# Altium footprint library DIP-JP NO 0607.PCBLIB: 61 footprints (part 1 of 4)
Each footprint in its own frame and in the unit in brackets; x right, y up, seen from the top. Pads: shape width x height; smd on the part's side, far side on the other; paste and mask are expansions set on the pad; w line width, h text height; cw(c..) or ccw(c..) is an arc to the next point about the centre after c.
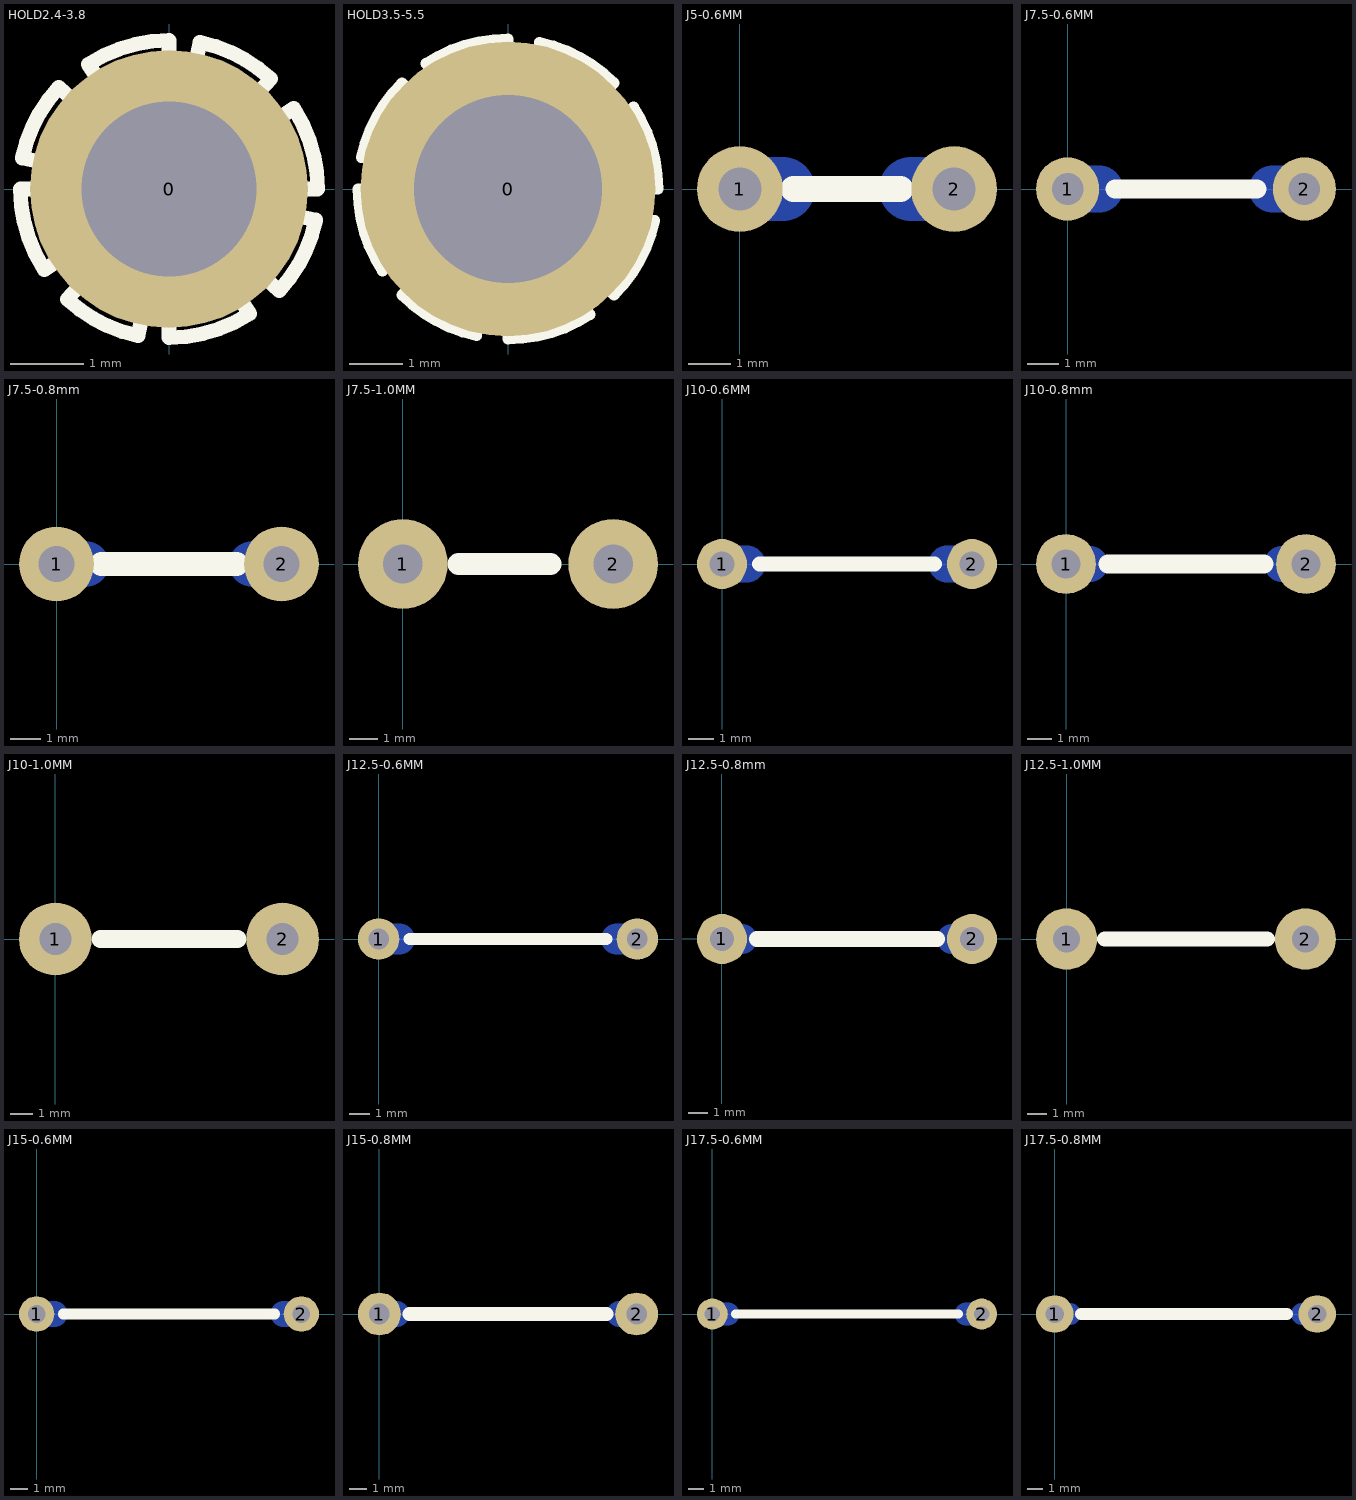
[diagram p0: the footprints below, top view; thin cyan lines are the x and y axes]

## HOLD2.4-3.8 [mm]
pads (1):
  round 3.8 hole 2.4: 0(0,0)
Top Overlay:
  circle w0.2: c0,0 r1.4
  lines w0.2: -2.008,0.423 cw(c0,0) -1.508,1.392 -1.025,0.95 ; -1.988,0.419 -1.37,0.288 ; -1.4,0 -2.032,0 ccw(c0,0) -1.706,-1.104 -1.175,-0.75 ; -0.95,-1.025 -1.392,-1.508 ccw(c0,0) -0.423,-2.008 ; -0.75,1.175 -1.104,1.706 cw(c0,0) 0,2.032 0,1.4 ; -0.419,-1.988 -0.288,-1.37 ; 0,-1.4 0,-2.032 ccw(c0,0) 1.104,-1.706 0.75,-1.175 ; 0.288,1.37 0.419,1.988 ; 0.423,2.008 cw(c0,0) 1.392,1.508 0.95,1.025 ; 1.025,-0.95 1.508,-1.392 ccw(c0,0) 2.008,-0.423 ; 1.175,0.75 1.706,1.104 cw(c0,0) 2.032,0 1.4,0 ; 1.37,-0.288 1.988,-0.419

## HOLD3.5-5.5 [mm]
pads (1):
  round 5.5 hole 3.5: 0(0,0)
Top Overlay:
  circle w0.2: c0,0 r2
  lines w0.2: -2.737,0.588 -2,0.4 ; -2.737,0.588 cw(c0,0) -1.98,1.98 -1.4,1.4 ; -2,0 -2.8,0 ccw(c0,0) -2.341,-1.536 -1.7,-1.1 ; -1.4,-1.4 -1.98,-1.98 ccw(c0,0) -0.588,-2.737 ; -1.1,1.7 -1.536,2.341 cw(c0,0) 0,2.8 0,2 ; -0.588,-2.737 -0.4,-2 ; 0,-2 0,-2.8 ccw(c0,0) 1.536,-2.341 1.1,-1.7 ; 0.4,2 0.588,2.737 ; 0.588,2.737 cw(c0,0) 1.98,1.98 1.4,1.4 ; 1.4,-1.4 1.98,-1.98 ccw(c0,0) 2.737,-0.588 ; 1.7,1.1 2.341,1.536 cw(c0,0) 2.8,0 2,0 ; 2,-0.4 2.737,-0.588

## J5-0.6MM [mm]
pads (2):
  round 2 hole 1: 1(0,0) 2(5,0)
Bottom Layer:
  lines w1.5: 0,0 1,0 ; 4,0 5,0
Top Overlay:
  lines w0.6: 1.25,0 3.75,0
Bottom Solder:
  lines w1: 0,0 1,0 ; 4,0 5,0

## J7.5-0.6MM [mm]
pads (2):
  round 2 hole 1: 1(0,0) 2(7.5,0)
Bottom Layer:
  lines w1.5: 0,0 1,0 ; 6.5,0 7.5,0
Top Overlay:
  lines w0.6: 1.5,0 6,0
Bottom Solder:
  lines w1: 0,0 1,0 ; 6.5,0 7.5,0

## J7.5-0.8mm [mm]
height 0.8
pads (2):
  round 2.5 hole 1.2: 1(0,0) 2(7.5,0)
Bottom Layer:
  lines w1.5: 0,0 1,0 ; 6.5,0 7.5,0
Top Overlay:
  lines w0.8: 1.5,0 6,0
Bottom Solder:
  lines w1: 0,0 1,0 ; 6.5,0 7.5,0

## J7.5-1.0MM [mm]
pads (2):
  round 3.2 hole 1.4: 1(0,0) 2(7.5,0)
Top Overlay:
  lines w0.8: 2,0 5.25,0

## J10-0.6MM [mm]
pads (2):
  round 2 hole 1: 1(0,0) 2(10,0)
Bottom Layer:
  lines w1.5: 0,0 1,0 ; 9,0 10,0
Top Overlay:
  lines w0.6: 1.5,0 8.5,0
Bottom Solder:
  lines w1: 0,0 1,0 ; 9,0 10,0

## J10-0.8mm [mm]
height 0.8
pads (2):
  round 2.5 hole 1.2: 1(0,0) 2(10,0)
Bottom Layer:
  lines w1.5: 0,0 1,0 ; 9,0 10,0
Top Overlay:
  lines w0.8: 1.75,0 8.25,0
Bottom Solder:
  lines w1: 0,0 1,0 ; 9,0 10,0

## J10-1.0MM [mm]
pads (2):
  round 3.2 hole 1.4: 1(0,0) 2(10,0)
Top Overlay:
  lines w0.8: 2,0 8,0

## J12.5-0.6MM [mm]
pads (2):
  round 2 hole 1: 1(0,0) 2(12.5,0)
Bottom Layer:
  lines w1.5: 0,0 1,0 ; 11.5,0 12.5,0
Top Overlay:
  lines w0.6: 1.5,0 11,0
Bottom Solder:
  lines w1: 0,0 1,0 ; 11.5,0 12.5,0

## J12.5-0.8mm [mm]
pads (2):
  round 2.5 hole 1.2: 1(0,0) 2(12.5,0)
Bottom Layer:
  lines w1.5: 0,0 1,0 ; 11.5,0 12.5,0
Top Overlay:
  lines w0.8: 1.75,0 10.75,0
Bottom Solder:
  lines w1: 0,0 1,0 ; 11.5,0 12.5,0

## J12.5-1.0MM [mm]
pads (2):
  round 3.2 hole 1.4: 1(0,0) 2(12.5,0)
Top Overlay:
  lines w0.8: 2,0 10.5,0

## J15-0.6MM [mm]
pads (2):
  round 2 hole 1: 1(0,0) 2(15,0)
Bottom Layer:
  lines w1.5: 0,0 1,0 ; 14,0 15,0
Top Overlay:
  lines w0.6: 1.5,0 13.5,0
Bottom Solder:
  lines w1: 0,0 1,0 ; 14,0 15,0

## J15-0.8MM [mm]
pads (2):
  round 2.5 hole 1.2: 1(0,0) 2(15,0)
Bottom Layer:
  lines w1.5: 0,0 1,0 ; 14,0 15,0
Top Overlay:
  lines w0.8: 1.75,0 13.25,0
Bottom Solder:
  lines w1: 0,0 1,0 ; 14,0 15,0

## J17.5-0.6MM [mm]
pads (2):
  round 2 hole 1: 1(0,0) 2(17.5,0)
Bottom Layer:
  lines w1.5: 0,0 1,0 ; 16.5,0 17.5,0
Top Overlay:
  lines w0.6: 1.5,0 16,0
Bottom Solder:
  lines w1: 0,0 1,0 ; 16.5,0 17.5,0

## J17.5-0.8MM [mm]
pads (2):
  round 2.5 hole 1.2: 1(0,0) 2(17.5,0)
Bottom Layer:
  lines w1.5: 0,0 1,0 ; 16.5,0 17.5,0
Top Overlay:
  lines w0.8: 1.75,0 15.5,0
Bottom Solder:
  lines w1: 0,0 1,0 ; 16.5,0 17.5,0